# Altium schematic symbol library CD4028.SchLib: 1 symbol
Pins are listed as number, name and electrical type; pins without a type are passive.

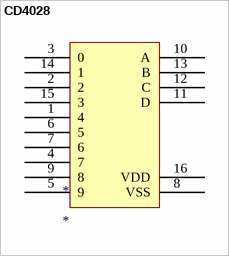
[diagram p0: symbol CD4028]

## CD4028
designator *
footprint CD4028
pins: 1 4, 2, 3 0, 4 7, 5 9, 6 5, 7 6, 8 VSS, 9 8, 10 A, 11 D, 12 C, 13 B, 14 1, 15 3, 16 VDD